# Altium schematic symbol library WS-ROTU THT Rotary Switch 10x10 mm right angle, 5.08 mm Pitch.SchLib: 4 symbols
Pins are listed as number, name and electrical type; pins without a type are passive.

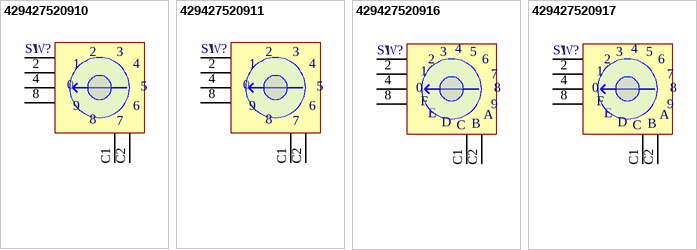
[diagram p0: symbols 429427520910 to 429427520917]

## 429427520910
designator SW?
WS-ROTU THT Rotary Switch 10x10 mm right angle, 5.08 mm Pitch; PartNumber: 429427520910; NoPins: 06; PackageReference: 429427520910; ComponentLink1Description: Manufacturer URL; ComponentLink1URL: http://www.we-online.com; ComponentLink2Description: Datasheet; ComponentLink2URL: http://katalog.we-online.de/em/datasheet/429427520910.pdf
footprint 429427520910 (10 position, 5,08mm Pitch, Right Angled type, THT, Round Cross type, dark grey actuator, real code, Tube)
pins: 1, 2, 4, 8, C1, C2
text: 3; 0; 5; 9; 6; 7

## 429427520911
designator SW?
WS-ROTU THT Rotary Switch 10x10 mm right angle, 5.08 mm Pitch; PartNumber: 429427520911; NoPins: 06; PackageReference: 429427520911; ComponentLink1Description: Manufacturer URL; ComponentLink1URL: http://www.we-online.com; ComponentLink2Description: Datasheet; ComponentLink2URL: http://katalog.we-online.de/em/datasheet/429427520911.pdf
footprint 429427520911 (10 position, 5,08mm Pitch, Right Angled type, THT, Round Cross type, ivory actuator, complement code, Tube)
pins: 1, 2, 4, 8, C1, C2
text: 3; 0; 5; 9; 6; 7

## 429427520916
designator SW?
WS-ROTU THT Rotary Switch 10x10 mm right angle, 5.08 mm Pitch; PartNumber: 429427520916; NoPins: 06; PackageReference: 429427520916; ComponentLink1Description: Manufacturer URL; ComponentLink1URL: http://www.we-online.com; ComponentLink2Description: Datasheet; ComponentLink2URL: http://katalog.we-online.de/em/datasheet/429427520916.pdf
footprint 429427520916 (16 position, 5,08mm Pitch, Right Angled type, THT, Round Cross type, dark grey actuator, real code, Tube)
pins: 1, 2, 4, 8, C1, C2
text: 3; 5; 6; 7; 0; F; 9; E; A; D; C; B

## 429427520917
designator SW?
WS-ROTU THT Rotary Switch 10x10 mm right angle, 5.08 mm Pitch; PartNumber: 429427520917; NoPins: 06; PackageReference: 429427520917; ComponentLink1Description: Manufacturer URL; ComponentLink1URL: http://www.we-online.com; ComponentLink2Description: Datasheet; ComponentLink2URL: http://katalog.we-online.de/em/datasheet/429427520917.pdf
footprint 429427520917 (16 position, 5,08mm Pitch, Right Angled type, THT, Round Cross type, ivory actuator, complement code, Tube)
pins: 1, 2, 4, 8, C1, C2
text: 3; 5; 6; 7; 0; F; 9; E; A; D; C; B